# EAGLE library part CDCM7005 (library NewSDR)
Texas Instruments 3.3V High Performance Clock Synchronizer and Jitter Cleaner with I/Q Outputs
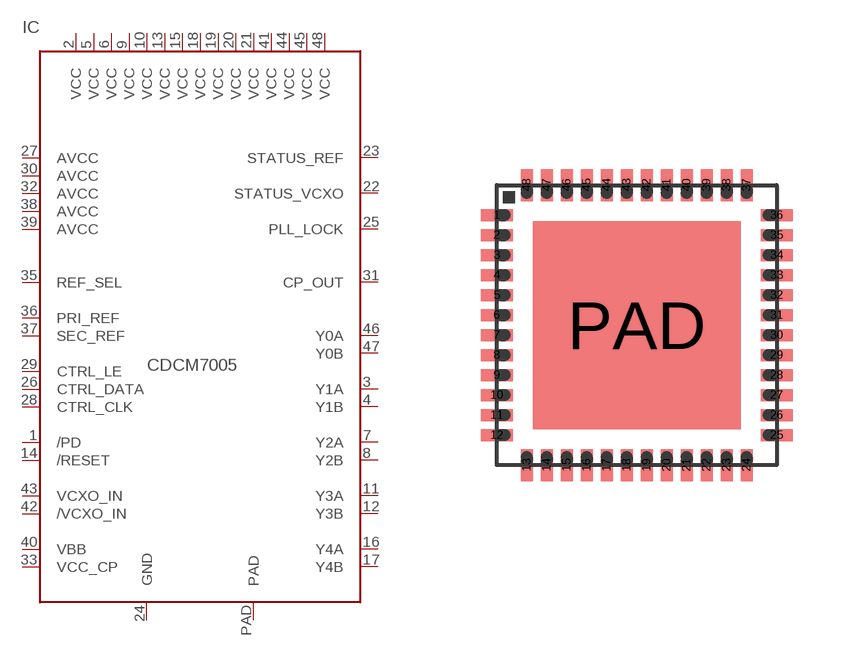
[diagram p92: symbol with the pads of QFN48; footprint QFN48]

Designator prefix IC

## CDCM7005RGZ  [QFN48]
1  /PD  in
2  VCC  pwr
3  Y1A  out
4  Y1B  out
5  VCC  pwr
6  VCC  pwr
7  Y2A  out
8  Y2B  out
9  VCC  pwr
10  VCC  pwr
11  Y3A  out
12  Y3B  out
13  VCC  pwr
14  /RESET  in
15  VCC  pwr
16  Y4A  out
17  Y4B  out
18  VCC  pwr
19  VCC  pwr
20  VCC  pwr
21  VCC  pwr
22  STATUS_VCXO  out
23  STATUS_REF  out
24  GND  pwr
25  PLL_LOCK
26  CTRL_DATA  in
27  AVCC  pwr
28  CTRL_CLK  in
29  CTRL_LE  in
30  AVCC  pwr
31  CP_OUT  out
32  AVCC  pwr
33  VCC_CP  pwr
35  REF_SEL  in
36  PRI_REF  in
37  SEC_REF  in
38  AVCC  pwr
39  AVCC  pwr
40  VBB  out
41  VCC  pwr
42  /VCXO_IN  in
43  VCXO_IN  in
44  VCC  pwr
45  VCC  pwr
46  Y0A  out
47  Y0B  out
48  VCC  pwr
PAD  PAD  pwr

## Footprint QFN48 (pad centres in mm)
48-pin QFN
smd 0.8 x 0.3: 1 -3.5,2.75; 2 -3.5,2.25; 3 -3.5,1.75; 4 -3.5,1.25; 5 -3.5,0.75; 6 -3.5,0.25; 7 -3.5,-0.25; 8 -3.5,-0.75; 9 -3.5,-1.25; 10 -3.5,-1.75; 11 -3.5,-2.25; 12 -3.5,-2.75; 25 3.5,-2.75; 26 3.5,-2.25; 27 3.5,-1.75; 28 3.5,-1.25; 29 3.5,-0.75; 30 3.5,-0.25; 31 3.5,0.25; 32 3.5,0.75; 33 3.5,1.25; 34 3.5,1.75; 35 3.5,2.25; 36 3.5,2.75
smd 0.3 x 0.8: 13 -2.75,-3.5; 14 -2.25,-3.5; 15 -1.75,-3.5; 16 -1.25,-3.5; 17 -0.75,-3.5; 18 -0.25,-3.5; 19 0.25,-3.5; 20 0.75,-3.5; 21 1.25,-3.5; 22 1.75,-3.5; 23 2.25,-3.5; 24 2.75,-3.5; 37 2.75,3.5; 38 2.25,3.5; 39 1.75,3.5; 40 1.25,3.5; 41 0.75,3.5; 42 0.25,3.5; 43 -0.25,3.5; 44 -0.75,3.5; 45 -1.25,3.5; 46 -1.75,3.5; 47 -2.25,3.5; 48 -2.75,3.5
smd 5.2 x 5.2: PAD 0,0